# EAGLE library part WIRE_6PIN (library Connector)
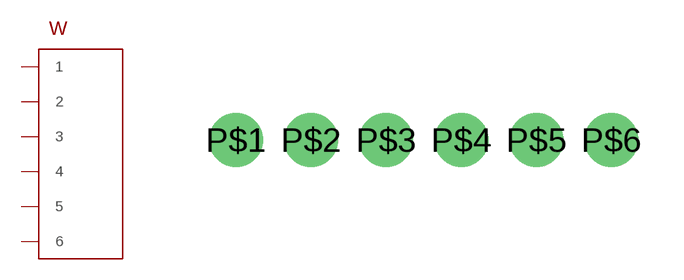
[diagram p2: symbol with the pads of 6PIN_2.5MM; footprint 6PIN_2.5MM]

Designator prefix W

## WIRE_6PIN  [6PIN_2.5MM]
P$1  1
P$2  2
P$3  3
P$4  4
P$5  5
P$6  6

## Footprint 6PIN_2.5MM (pad centres in mm)
drill 1.2: P$1 -6.25,0; P$2 -3.75,0; P$3 -1.25,0; P$4 1.25,0; P$5 3.75,0; P$6 6.25,0